# Altium footprint library Supernova Inductors.PcbLib: 56 footprints (part 4 of 4)
Each footprint in its own frame and in the unit in brackets; x right, y up, seen from the top. Pads: shape width x height; smd on the part's side, far side on the other; paste and mask are expansions set on the pad; w line width, h text height; cw(c..) or ccw(c..) is an arc to the next point about the centre after c.
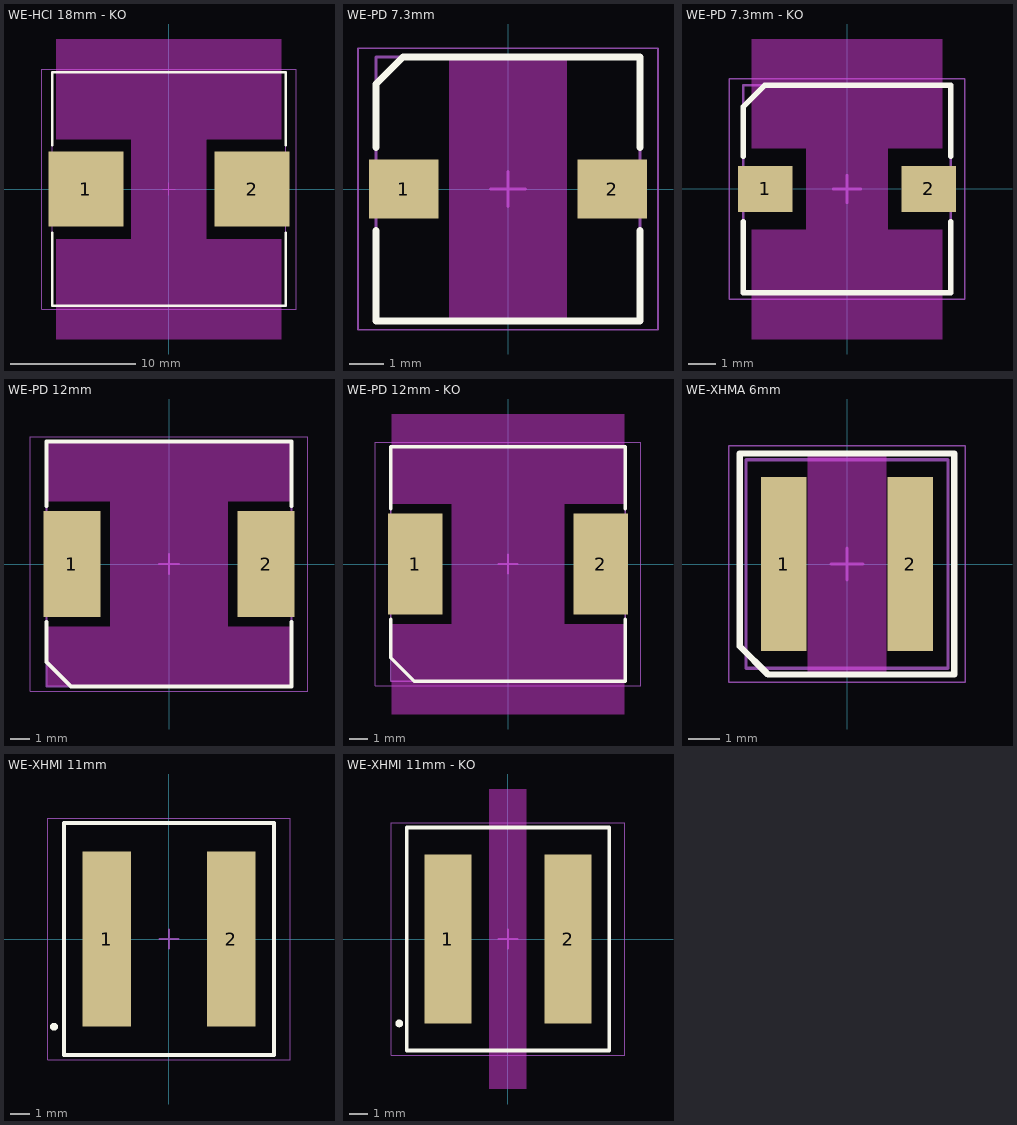
[diagram p3: the footprints below, top view; thin cyan lines are the x and y axes]

## WE-HCI 18mm - KO [mm] "Precision Wire Wound Inductor, 2-Leads, Body 18.20x18.20mm, IPC Medium Density"
height 8.9
pads (2):
  rect 6x6 smd paste-0.5: 1(-6.65,0) 2(6.65,0)
Top Overlay:
  lines w0.2: -9.35,-3.5 -9.35,-9.35 9.35,-9.35 9.35,-3.5 ; -9.35,3.5 -9.35,9.35 9.35,9.35 9.35,3.5
Keep-Out Layer:
  region: -9,12 -9,4 -3,4 -3,-4 -9,-4 -9,-12 9,-12 9,-4 3,-4 3,4 9,4 9,12
Top 3D Body (Mech13):
  lines w0.1: -9.35,-9.35 9.35,-9.35 9.35,9.35 -9.35,9.35 -9.35,-9.35
Top Courtyard:
  lines w0.05: -10.175,-9.6 10.175,-9.6 10.175,9.6 -10.175,9.6 -10.175,-9.6
  lines w0.1: -0.5,0 0.5,0 ; 0,-0.5 0,0.5
3D body: height 8.9, standoff 0, extent -9.35,-9.35 9.35,9.35

## WE-PD 7.3mm [mm] "Precision Wire Wound Inductor, 2-Leads, Body 7.30x7.30mm, IPC Medium Density"
height 3.5
pads (2):
  rect 2x1.7 smd paste-0.1: 1(-3,0) 2(3,0)
Top Layer keep-out:
  rectangle: -1.7,-3.8 1.7,3.8
Top Overlay:
  lines w0.2: -3.8,-1.2 -3.8,-3.8 3.8,-3.8 3.8,-1.2 ; -3.8,1.2 -3.8,3.025 -3.025,3.8 3.8,3.8 3.8,1.2
Top 3D Body (Mech13):
  lines w0.1: -3.8,-3.8 -3.8,3.8 3.8,3.8 3.8,-3.8 -3.8,-3.8
Top Courtyard:
  lines w0.05: -4.318,-4.05 4.318,-4.05 4.318,4.05 -4.318,4.05 -4.318,-4.05
  lines w0.1: -0.5,0 0.5,0 ; 0,-0.5 0,0.5
3D body "STEP-WE-PD-7332-Plastic-rev1.stp": height 3.2, standoff 0, extent -3.65,-3.65 3.65,3.65

## WE-PD 7.3mm - KO [mm] "Precision Wire Wound Inductor, 2-Leads, Body 7.30x7.30mm, IPC Medium Density"
height 3.5
pads (2):
  rect 2x1.7 smd paste-0.1: 1(-3,0) 2(3,0)
Top Overlay:
  lines w0.2: -3.8,-1.2 -3.8,-3.8 3.8,-3.8 3.8,-1.2 ; -3.8,1.2 -3.8,3.025 -3.025,3.8 3.8,3.8 3.8,1.2
Keep-Out Layer:
  region: -3.5,5.5 -3.5,1.5 -1.5,1.5 -1.5,-1.5 -3.5,-1.5 -3.5,-5.5 3.5,-5.5 3.5,-1.5 1.5,-1.5 1.5,1.5 3.5,1.5 3.5,5.5
Top 3D Body (Mech13):
  lines w0.1: -3.8,-3.8 -3.8,3.8 3.8,3.8 3.8,-3.8 -3.8,-3.8
Top Courtyard:
  lines w0.05: -4.318,-4.05 4.318,-4.05 4.318,4.05 -4.318,4.05 -4.318,-4.05
  lines w0.1: -0.5,0 0.5,0 ; 0,-0.5 0,0.5
3D body "STEP-WE-PD-7332-Plastic-rev1.stp": height 3.2, standoff 0, extent -3.65,-3.65 3.65,3.65

## WE-PD 12mm [mm] "Precision Wire Wound Inductor, 2-Leads, Body 12.00x12.00mm, IPC Medium Density"
height 10
pads (2):
  rect 2.9x5.4 smd paste-0.2: 1(-4.95,0) 2(4.95,0)
Top Layer keep-out:
  region: -6.2,6.2 -6.2,3.2 -3,3.2 -3,-3.2 -6.2,-3.2 -6.2,-6.2 6.2,-6.2 6.2,-3.2 3,-3.2 3,3.2 6.2,3.2 6.2,6.2
Top Overlay:
  lines w0.2: -6.25,-2.95 -6.25,-5 -5,-6.25 6.25,-6.25 6.25,-2.95 ; -6.25,2.95 -6.25,6.25 6.25,6.25 6.25,2.95
Top 3D Body (Mech13):
  lines w0.1: -6.25,-6.25 6.25,-6.25 6.25,6.25 -6.25,6.25 -6.25,-6.25
Top Courtyard:
  lines w0.05: -7.075,-6.5 7.075,-6.5 7.075,6.5 -7.075,6.5 -7.075,-6.5
  lines w0.1: -0.5,0 0.5,0 ; 0,-0.5 0,0.5
3D body: height 10, standoff 0, extent -6.25,-6.25 6.25,6.25

## WE-PD 12mm - KO [mm] "Precision Wire Wound Inductor, 2-Leads, Body 12.00x12.00mm, IPC Medium Density"
height 10
pads (2):
  rect 2.9x5.4 smd paste-0.2: 1(-4.95,0) 2(4.95,0)
Top Overlay:
  lines w0.2: -6.25,-2.95 -6.25,-5 -5,-6.25 6.25,-6.25 6.25,-2.95 ; -6.25,2.95 -6.25,6.25 6.25,6.25 6.25,2.95
Keep-Out Layer:
  region: -6.2,8 -6.2,3.2 -3,3.2 -3,-3.2 -6.2,-3.2 -6.2,-8 6.2,-8 6.2,-3.2 3,-3.2 3,3.2 6.2,3.2 6.2,8
Top 3D Body (Mech13):
  lines w0.1: -6.25,-6.25 6.25,-6.25 6.25,6.25 -6.25,6.25 -6.25,-6.25
Top Courtyard:
  lines w0.05: -7.075,-6.5 7.075,-6.5 7.075,6.5 -7.075,6.5 -7.075,-6.5
  lines w0.1: -0.5,0 0.5,0 ; 0,-0.5 0,0.5
3D body: height 10, standoff 0, extent -6.25,-6.25 6.25,6.25

## WE-XHMA 6mm [mm] "Precision Wire Wound Inductor, 2-Leads, Body 10.50x11.60mm, IPC Medium Density"
height 91
pads (2):
  rect 1.45x5.5 smd: 1(-2,0) 2(2,0)
Top Layer keep-out:
  region: -1.25,3.5 -1.25,-3.5 1.25,-3.5 1.25,3.5
Top Overlay:
  lines w0.2: -3.4,-2.6 -2.5,-3.5 3.4,-3.5 3.4,-2.6 3.4,3.5 -3.4,3.5 -3.4,-2.6
Top 3D Body (Mech13):
  lines w0.1: -3.2,-3.3 3.2,-3.3 3.2,3.3 -3.2,3.3 -3.2,-3.3
Top Courtyard:
  lines w0.05: -3.75,-3.75 3.75,-3.75 3.75,3.75 -3.75,3.75 -3.75,-3.75
  lines w0.1: -0.5,0 0.5,0 ; 0,-0.5 0,0.5
3D body "STP_WE-XHMA-6060_78439346056 (rev1).stp": height 5.8, standoff 0, extent -3.225,-3.325 3.225,3.325

## WE-XHMI 11mm [mm] "Precision Wire Wound Inductor, 2-Leads, Body 10.50x11.60mm, IPC Medium Density"
height 91
pads (2):
  rect 2.5x9 smd paste-2: 1(-3.2,0) 2(3.2,0)
Top Overlay:
  circle w0.203: c-5.902,-4.504 r0.102
  lines w0.2: -5.4,-5.95 5.4,-5.95 5.4,-4.6 5.4,5.95 -5.4,5.95 -5.4,-4.6 -5.4,-5.95
Top Paste:
  rectangle: -4.2,0.25 -2.2,4.25
  rectangle: -4.2,-4.25 -2.2,-0.25
  region: 4.2,-0.25 2.2,-0.25 2.2,-4.25 4.2,-4.25
  region: 4.2,4.25 2.2,4.25 2.2,0.25 4.2,0.25
Top 3D Body (Mech13):
  lines w0.1: -5.4,-5.95 -5.4,5.95 5.4,5.95 5.4,-5.95 -5.4,-5.95
Top Courtyard:
  lines w0.05: -6.225,-6.2 -6.225,6.2 6.225,6.2 6.225,-6.2 -6.225,-6.2
  lines w0.1: -0.5,0 0.5,0 ; 0,-0.5 0,0.5
3D body: height 9.1, standoff 0, extent -5.4,-5.95 5.4,5.95

## WE-XHMI 11mm - KO [mm] "Precision Wire Wound Inductor, 2-Leads, Body 10.50x11.60mm, IPC Medium Density"
height 91
pads (2):
  rect 2.5x9 smd paste-2: 1(-3.2,0) 2(3.2,0)
Top Overlay:
  circle w0.203: c-5.802,-4.504 r0.102
  lines w0.2: -5.4,-5.95 -5.4,-4.6 -5.4,5.95 5.4,5.95 5.4,-4.6 5.4,-5.95 -5.4,-5.95
Top Paste:
  region: 4.2,4.267 2.2,4.267 2.2,0.267 4.2,0.267
  region: 4.2,-0.233 2.2,-0.233 2.2,-4.233 4.2,-4.233
  rectangle: -4.2,-4.25 -2.2,-0.25
  rectangle: -4.2,0.25 -2.2,4.25
Keep-Out Layer:
  rectangle: -1,-8 1,8
Top 3D Body (Mech13):
  lines w0.1: -5.4,-5.95 5.4,-5.95 5.4,5.95 -5.4,5.95 -5.4,-5.95
Top Courtyard:
  lines w0.05: -6.225,-6.2 6.225,-6.2 6.225,6.2 -6.225,6.2 -6.225,-6.2
  lines w0.1: -0.5,0 0.5,0 ; 0,-0.5 0,0.5
3D body: height 9.1, standoff 0, extent -5.4,-5.95 5.4,5.95